# Altium schematic symbol library connector_degson.SchLib: 24 symbols
Pins are listed as number, name and electrical type; pins without a type are passive.

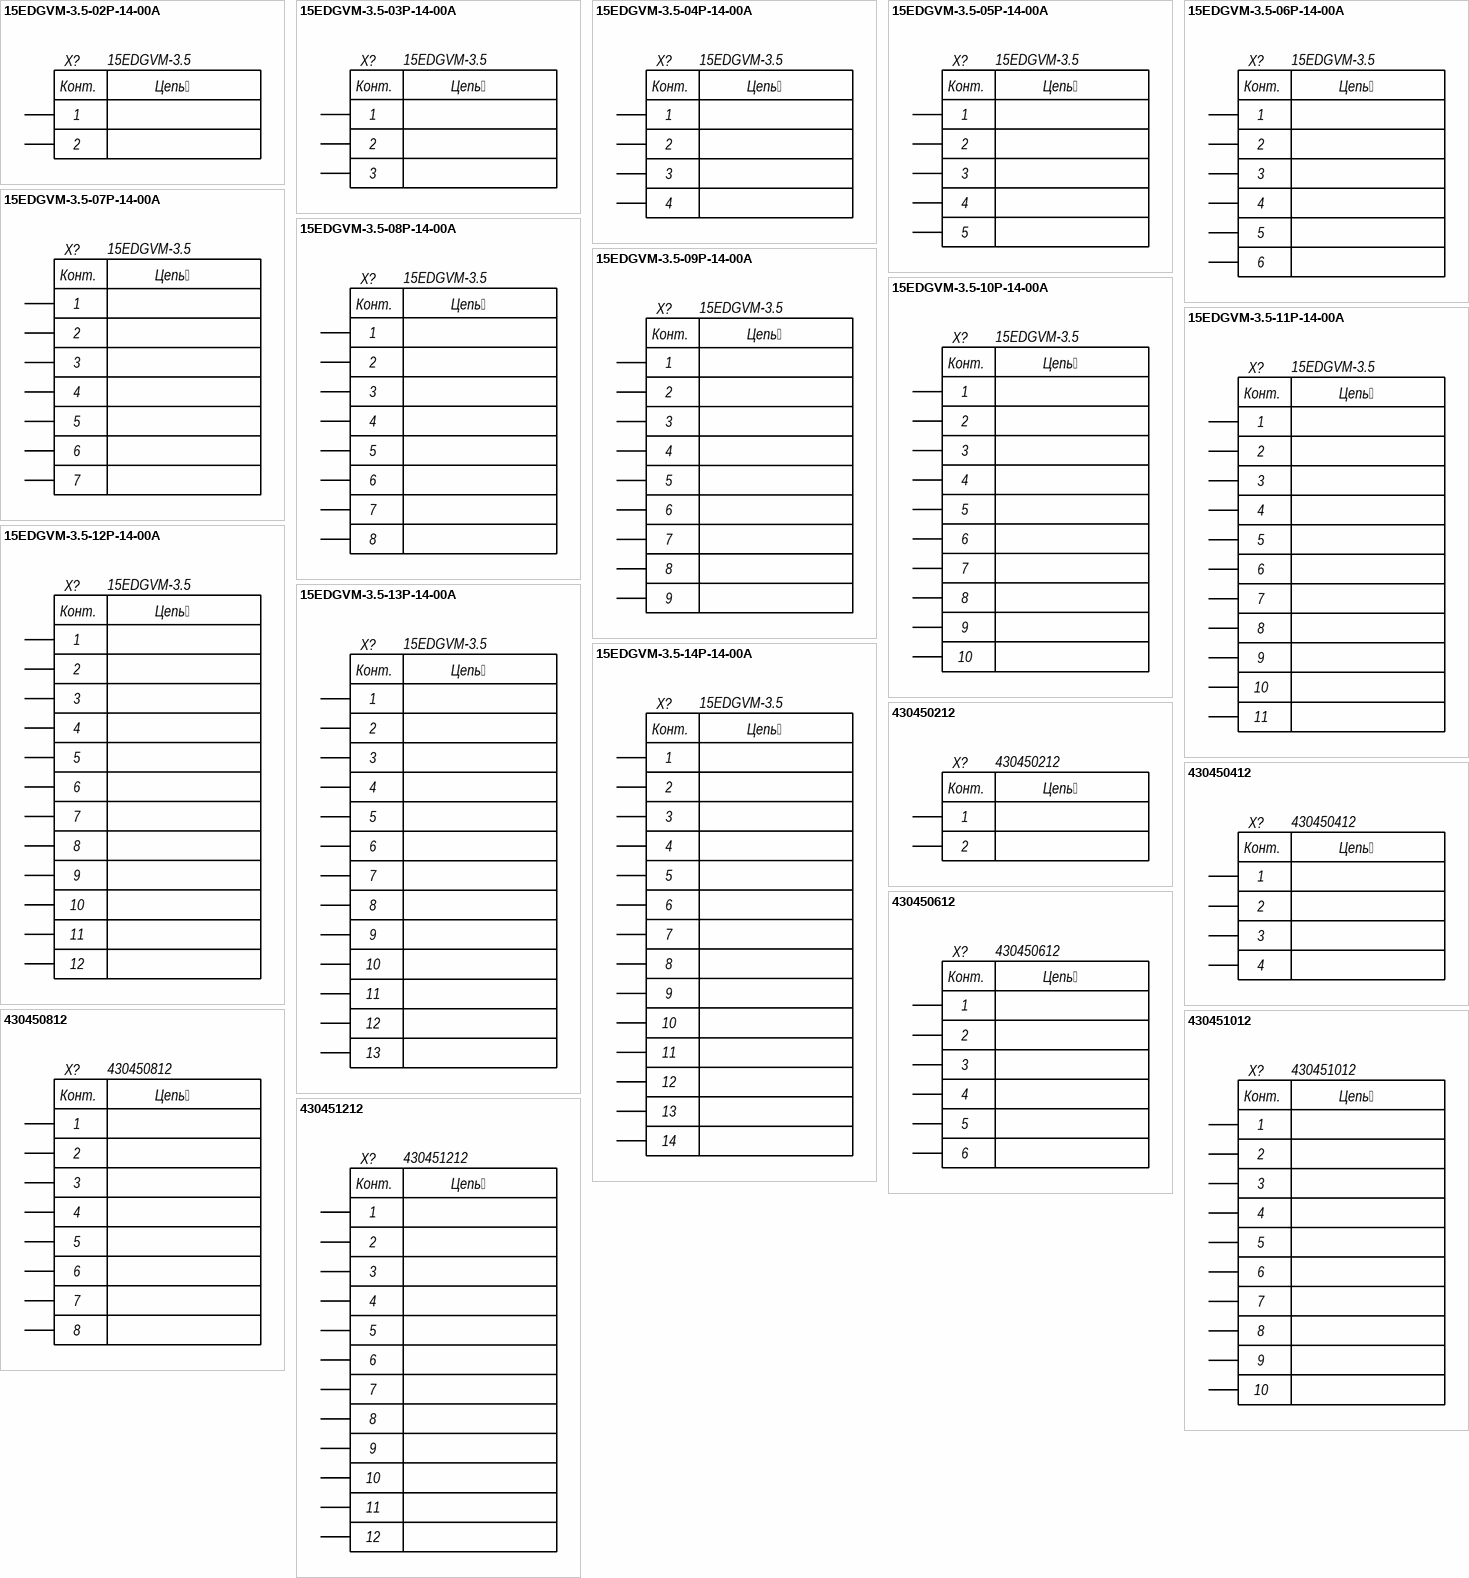
[diagram p0: symbols 15EDGVM-3.5-02P-14-00A to 430451212]

## 15EDGVM-3.5-02P-14-00A
designator X?, comment 15EDGVM-3.5
15EDGVM-3.5-02P-14-00A; Manufacturer: Degson Electronics Co.; ValueBOM: 15EDGVM-3.5-02P-14-00A   Degson Electronics Co.; Value: 15EDGVM-3.5; Part Number: 15EDGVM-3.5-02P-14-00A; Package: 15EDGVM-3.5-02P-14-00A; BOM1: 15EDGVM-3.5-02P-14-00A; BOM2: 15EDGVM-3.5-02P-14-00A
footprint 15EDGVM3502P1400AH (15EDGVM-3.5-02P-14-00A)
footprint 15EDGVM3502P1400AH - 15EDGKM-3.5-02P-14-00AH (15EDGVM-3.5-02P-14-00A)
pins: 1, 2
text: Конт.; Цепь

## 15EDGVM-3.5-03P-14-00A
designator X?, comment 15EDGVM-3.5
15EDGVM-3.5-03P-14-00A; Manufacturer: Degson Electronics Co.; ValueBOM: 15EDGVM-3.5-03P-14-00A   Degson Electronics Co.; Value: 15EDGVM-3.5; Part Number: 15EDGVM-3.5-03P-14-00A; Package: 15EDGVM-3.5-03P-14-00A; BOM1: 15EDGVM-3.5-03P-14-00A; BOM2: 15EDGVM-3.5-03P-14-00A
footprint 15EDGVM3503P1400AH (15EDGVM-3.5-03P-14-00A)
footprint 15EDGVM3503P1400AH - 15EDGKM-3.5-03P-14-00AH (15EDGVM-3.5-03P-14-00A)
pins: 1, 2, 3
text: Конт.; Цепь

## 15EDGVM-3.5-04P-14-00A
designator X?, comment 15EDGVM-3.5
15EDGVM-3.5-04P-14-00A; Manufacturer: Degson Electronics Co.; ValueBOM: 15EDGVM-3.5-04P-14-00A   Degson Electronics Co.; Value: 15EDGVM-3.5; Part Number: 15EDGVM-3.5-04P-14-00A; Package: 15EDGVM-3.5-04P-14-00A; BOM1: 15EDGVM-3.5-04P-14-00A; BOM2: 15EDGVM-3.5-04P-14-00A
footprint 15EDGVM3504P1400AH (15EDGVM-3.5-04P-14-00A)
footprint 15EDGVM3504P1400AH - 15EDGKM-3.5-04P-14-00AH (15EDGVM-3.5-04P-14-00A)
pins: 1, 2, 3, 4
text: Конт.; Цепь

## 15EDGVM-3.5-05P-14-00A
designator X?, comment 15EDGVM-3.5
15EDGVM-3.5-05P-14-00A; Manufacturer: Degson Electronics Co.; ValueBOM: 15EDGVM-3.5-05P-14-00A   Degson Electronics Co.; Value: 15EDGVM-3.5; Part Number: 15EDGVM-3.5-05P-14-00A; Package: 15EDGVM-3.5-05P-14-00A; BOM1: 15EDGVM-3.5-05P-14-00A; BOM2: 15EDGVM-3.5-05P-14-00A
footprint 15EDGVM3505P1400AH (15EDGVM-3.5-05P-14-00A)
footprint 15EDGVM3505P1400AH - 15EDGKM-3.5-05P-14-00AH (15EDGVM-3.5-05P-14-00A)
pins: 1, 2, 3, 4, 5
text: Конт.; Цепь

## 15EDGVM-3.5-06P-14-00A
designator X?, comment 15EDGVM-3.5
15EDGVM-3.5-06P-14-00A; Manufacturer: Degson Electronics Co.; ValueBOM: 15EDGVM-3.5-06P-14-00A   Degson Electronics Co.; Value: 15EDGVM-3.5; Part Number: 15EDGVM-3.5-06P-14-00A; Package: 15EDGVM-3.5-06P-14-00A; BOM1: 15EDGVM-3.5-06P-14-00A; BOM2: 15EDGVM-3.5-06P-14-00A
footprint 15EDGVM3506P1400AH (15EDGVM-3.5-06P-14-00A)
footprint 15EDGVM3506P1400AH - 15EDGKM-3.5-06P-14-00AH (15EDGVM-3.5-06P-14-00A)
pins: 1, 2, 3, 4, 5, 6
text: Конт.; Цепь

## 15EDGVM-3.5-07P-14-00A
designator X?, comment 15EDGVM-3.5
15EDGVM-3.5-07P-14-00A; Manufacturer: Degson Electronics Co.; ValueBOM: 15EDGVM-3.5-07P-14-00A   Degson Electronics Co.; Value: 15EDGVM-3.5; Part Number: 15EDGVM-3.5-07P-14-00A; Package: 15EDGVM-3.5-07P-14-00A; BOM1: 15EDGVM-3.5-07P-14-00A; BOM2: 15EDGVM-3.5-07P-14-00A
footprint 15EDGVM3507P1400AH (15EDGVM-3.5-07P-14-00A)
footprint 15EDGVM3507P1400AH - 15EDGKM-3.5-07P-14-00AH (15EDGVM-3.5-07P-14-00A)
pins: 1, 2, 3, 4, 5, 6, 7
text: Конт.; Цепь

## 15EDGVM-3.5-08P-14-00A
designator X?, comment 15EDGVM-3.5
15EDGVM-3.5-08P-14-00A; Manufacturer: Degson Electronics Co.; ValueBOM: 15EDGVM-3.5-08P-14-00A   Degson Electronics Co.; Value: 15EDGVM-3.5; Part Number: 15EDGVM-3.5-08P-14-00A; Package: 15EDGVM-3.5-08P-14-00A; BOM1: 15EDGVM-3.5-08P-14-00A; BOM2: 15EDGVM-3.5-08P-14-00A
footprint 15EDGVM3508P1400AH (15EDGVM-3.5-08P-14-00A)
footprint 15EDGVM3508P1400AH - 15EDGKM-3.5-08P-14-00AH (15EDGVM-3.5-08P-14-00A)
pins: 1, 2, 3, 4, 5, 6, 7, 8
text: Конт.; Цепь

## 15EDGVM-3.5-09P-14-00A
designator X?, comment 15EDGVM-3.5
15EDGVM-3.5-09P-14-00A; Manufacturer: Degson Electronics Co.; ValueBOM: 15EDGVM-3.5-09P-14-00A   Degson Electronics Co.; Value: 15EDGVM-3.5; Part Number: 15EDGVM-3.5-09P-14-00A; Package: 15EDGVM-3.5-09P-14-00A; BOM1: 15EDGVM-3.5-09P-14-00A; BOM2: 15EDGVM-3.5-09P-14-00A
footprint 15EDGVM3509P1400AH (15EDGVM-3.5-09P-14-00A)
footprint 15EDGVM3509P1400AH - 15EDGKM-3.5-09P-14-00AH (15EDGVM-3.5-09P-14-00A)
pins: 1, 2, 3, 4, 5, 6, 7, 8, 9
text: Конт.; Цепь

## 15EDGVM-3.5-10P-14-00A
designator X?, comment 15EDGVM-3.5
15EDGVM-3.5-10P-14-00A; Manufacturer: Degson Electronics Co.; ValueBOM: 15EDGVM-3.5-10P-14-00A   Degson Electronics Co.; Value: 15EDGVM-3.5; Part Number: 15EDGVM-3.5-10P-14-00A; Package: 15EDGVM-3.5-10P-14-00A; BOM1: 15EDGVM-3.5-10P-14-00A; BOM2: 15EDGVM-3.5-10P-14-00A
footprint 15EDGVM3510P1400AH (15EDGVM-3.5-10P-14-00A)
footprint 15EDGVM3510P1400AH - 15EDGKM-3.5-10P-14-00AH (15EDGVM-3.5-10P-14-00A)
pins: 1, 2, 3, 4, 5, 6, 7, 8, 9, 10
text: Конт.; Цепь

## 15EDGVM-3.5-11P-14-00A
designator X?, comment 15EDGVM-3.5
15EDGVM-3.5-11P-14-00A; Manufacturer: Degson Electronics Co.; ValueBOM: 15EDGVM-3.5-11P-14-00A   Degson Electronics Co.; Value: 15EDGVM-3.5; Part Number: 15EDGVM-3.5-11P-14-00A; Package: 15EDGVM-3.5-11P-14-00A; BOM1: 15EDGVM-3.5-11P-14-00A; BOM2: 15EDGVM-3.5-11P-14-00A
footprint 15EDGVM3511P1400AH (15EDGVM-3.5-11P-14-00A)
footprint 15EDGVM3511P1400AH - 15EDGKM-3.5-11P-14-00AH (15EDGVM-3.5-11P-14-00A)
pins: 1, 2, 3, 4, 5, 6, 7, 8, 9, 10, 11
text: Конт.; Цепь

## 15EDGVM-3.5-12P-14-00A
designator X?, comment 15EDGVM-3.5
15EDGVM-3.5-12P-14-00A; Manufacturer: Degson Electronics Co.; ValueBOM: 15EDGVM-3.5-12P-14-00A   Degson Electronics Co.; Value: 15EDGVM-3.5; Part Number: 15EDGVM-3.5-12P-14-00A; Package: 15EDGVM-3.5-12P-14-00A; BOM1: 15EDGVM-3.5-12P-14-00A; BOM2: 15EDGVM-3.5-12P-14-00A
footprint 15EDGVM3512P1400AH (15EDGVM-3.5-12P-14-00A)
footprint 15EDGVM3512P1400AH - 15EDGKM-3.5-12P-14-00AH (15EDGVM-3.5-12P-14-00A)
pins: 1, 2, 3, 4, 5, 6, 7, 8, 9, 10, 11, 12
text: Конт.; Цепь

## 15EDGVM-3.5-13P-14-00A
designator X?, comment 15EDGVM-3.5
15EDGVM-3.5-13P-14-00A; Manufacturer: Degson Electronics Co.; ValueBOM: 15EDGVM-3.5-13P-14-00A   Degson Electronics Co.; Value: 15EDGVM-3.5; Part Number: 15EDGVM-3.5-13P-14-00A; Package: 15EDGVM-3.5-13P-14-00A; BOM1: 15EDGVM-3.5-13P-14-00A; BOM2: 15EDGVM-3.5-13P-14-00A
footprint 15EDGVM3513P1400AH (15EDGVM-3.5-13P-14-00A)
footprint 15EDGVM3513P1400AH - 15EDGKM-3.5-13P-14-00AH (15EDGVM-3.5-13P-14-00A)
pins: 1, 2, 3, 4, 5, 6, 7, 8, 9, 10, 11, 12, 13
text: Конт.; Цепь

## 15EDGVM-3.5-14P-14-00A
designator X?, comment 15EDGVM-3.5
15EDGVM-3.5-14P-14-00A; Manufacturer: Degson Electronics Co.; ValueBOM: 15EDGVM-3.5-14P-14-00A   Degson Electronics Co.; Value: 15EDGVM-3.5; Part Number: 15EDGVM-3.5-14P-14-00A; Package: 15EDGVM-3.5-14P-14-00A; BOM1: 15EDGVM-3.5-14P-14-00A; BOM2: 15EDGVM-3.5-14P-14-00A
footprint 15EDGVM3514P1400AH (15EDGVM-3.5-14P-14-00A)
footprint 15EDGVM3514P1400AH - 15EDGKM-3.5-14P-14-00AH (15EDGVM-3.5-14P-14-00A)
pins: 1, 2, 3, 4, 5, 6, 7, 8, 9, 10, 11, 12, 13, 14
text: Конт.; Цепь

## 430450212
designator X?
Micro-Fit 3.0 Vertical Header, 3.00mm Pitch, Dual Row, with PCB Polarizing Peg, 1.52µm Matte Tin Plating, Glow-Wire Capable, Black; Manufacturer: Molex; BOM1: Molex 430450212; ValueBOM: 430450212   Molex; Value: 430450212; Part Number: 430450212; Package: 430450212; BOM2: Molex 430450212
footprint 430450212 (Micro-Fit 3.0 Vertical Header, 3.00mm Pitch, Dual Row,  with PCB Polarizing Peg, 1.52µm Matte Tin Plating, Glow-Wire Capable, Black)
footprint 430450212 - 430450200 (Micro-Fit 3.0 Vertical Header, 3.00mm Pitch, Dual Row,  with PCB Polarizing Peg, 1.52µm Matte Tin Plating, Glow-Wire Capable, Black)
pins: 1, 2
text: Конт.; Цепь

## 430450412
designator X?
Micro-Fit 3.0 Vertical Header, 3.00mm Pitch, Dual Row, with PCB Polarizing Peg, 1.52µm Matte Tin Plating, Glow-Wire Capable, Black; Manufacturer: Molex; BOM1: Molex 430450412; ValueBOM: 430450412   Molex; Value: 430450412; Part Number: 430450412; Package: 430450412; BOM2: Molex 430450412
footprint 430450412 (Micro-Fit 3.0 Vertical Header, 3.00mm Pitch, Dual Row,  with PCB Polarizing Peg, 1.52µm Matte Tin Plating, Glow-Wire Capable, Black)
footprint 430450412 - 430450400 (Micro-Fit 3.0 Vertical Header, 3.00mm Pitch, Dual Row,  with PCB Polarizing Peg, 1.52µm Matte Tin Plating, Glow-Wire Capable, Black)
pins: 1, 2, 3, 4
text: Конт.; Цепь

## 430450612
designator X?
Micro-Fit 3.0 Vertical Header, 3.00mm Pitch, Dual Row, with PCB Polarizing Peg, 1.52µm Matte Tin Plating, Glow-Wire Capable, Black; Manufacturer: Molex; BOM1: Molex 430450612; ValueBOM: 430450612   Molex; Value: 430450612; Part Number: 430450612; Package: 430450612; BOM2: Molex 430450612
footprint 430450612 (Micro-Fit 3.0 Vertical Header, 3.00mm Pitch, Dual Row,  with PCB Polarizing Peg, 1.52µm Matte Tin Plating, Glow-Wire Capable, Black)
footprint 430450612 - 430450600 (Micro-Fit 3.0 Vertical Header, 3.00mm Pitch, Dual Row,  with PCB Polarizing Peg, 1.52µm Matte Tin Plating, Glow-Wire Capable, Black)
pins: 1, 2, 3, 4, 5, 6
text: Конт.; Цепь

## 430450812
designator X?
Micro-Fit 3.0 Vertical Header, 3.00mm Pitch, Dual Row, with PCB Polarizing Peg, 1.52µm Matte Tin Plating, Glow-Wire Capable, Black; Manufacturer: Molex; BOM1: Molex 430450812; ValueBOM: 430450812   Molex; Value: 430450812; Part Number: 430450812; Package: 430450812; BOM2: Molex 430450812
footprint 430450812 (Micro-Fit 3.0 Vertical Header, 3.00mm Pitch, Dual Row,  with PCB Polarizing Peg, 1.52µm Matte Tin Plating, Glow-Wire Capable, Black)
footprint 430450812 - 430450800 (Micro-Fit 3.0 Vertical Header, 3.00mm Pitch, Dual Row,  with PCB Polarizing Peg, 1.52µm Matte Tin Plating, Glow-Wire Capable, Black)
pins: 1, 2, 3, 4, 5, 6, 7, 8
text: Конт.; Цепь

## 430451012
designator X?
Micro-Fit 3.0 Vertical Header, 3.00mm Pitch, Dual Row, with PCB Polarizing Peg, 1.52µm Matte Tin Plating, Glow-Wire Capable, Black; Manufacturer: Molex; BOM1: Molex 430451012; ValueBOM: 430451012   Molex; Value: 430451012; Part Number: 430451012; Package: 430451012; BOM2: Molex 430451012
footprint 430451012
footprint 430451012 - 430451000 (Micro-Fit 3.0 Vertical Header, 3.00mm Pitch, Dual Row,  with PCB Polarizing Peg, 1.52µm Matte Tin Plating, Glow-Wire Capable, Black)
pins: 1, 2, 3, 4, 5, 6, 7, 8, 9, 10
text: Конт.; Цепь

## 430451212
designator X?
Micro-Fit 3.0 Vertical Header, 3.00mm Pitch, Dual Row, with PCB Polarizing Peg, 1.52µm Matte Tin Plating, Glow-Wire Capable, Black; Manufacturer: Molex; BOM1: Molex 430451212; ValueBOM: 430451212   Molex; Value: 430451212; Part Number: 430451212; Package: 430451212; BOM2: Molex 430451212
footprint 430451212 - 430451200 (Micro-Fit 3.0 Vertical Header, 3.00mm Pitch, Dual Row,  with PCB Polarizing Peg, 1.52µm Matte Tin Plating, Glow-Wire Capable, Black)
footprint 430451212 (Micro-Fit 3.0 Vertical Header, 3.00mm Pitch, Dual Row,  with PCB Polarizing Peg, 1.52µm Matte Tin Plating, Glow-Wire Capable, Black)
pins: 1, 2, 3, 4, 5, 6, 7, 8, 9, 10, 11, 12
text: Конт.; Цепь

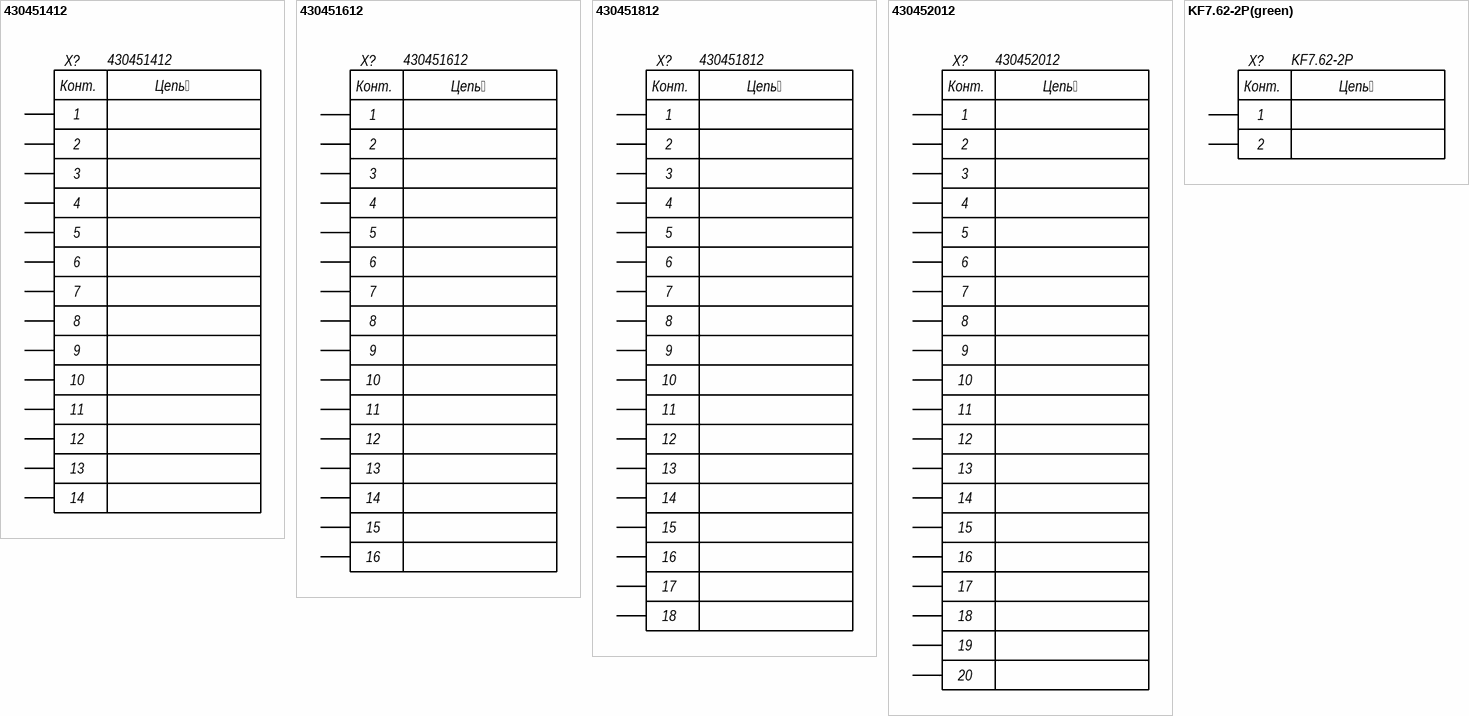
[diagram p1: symbols 430451412 to KF7.62-2P(green)]

## 430451412
designator X?
Micro-Fit 3.0 Vertical Header, 3.00mm Pitch, Dual Row, with PCB Polarizing Peg, 1.52µm Matte Tin Plating, Glow-Wire Capable, Black; Manufacturer: Molex; BOM1: Molex 430451412; ValueBOM: 430451412   Molex; Value: 430451412; Part Number: 430451412; Package: 430451412; BOM2: Molex 430451412
footprint 430451412 (Micro-Fit 3.0 Vertical Header, 3.00mm Pitch, Dual Row,  with PCB Polarizing Peg, 1.52µm Matte Tin Plating, Glow-Wire Capable, Black)
footprint 430451412 - 430451400 (Micro-Fit 3.0 Vertical Header, 3.00mm Pitch, Dual Row,  with PCB Polarizing Peg, 1.52µm Matte Tin Plating, Glow-Wire Capable, Black)
pins: 1, 2, 3, 4, 5, 6, 7, 8, 9, 10, 11, 12, 13, 14
text: Конт.; Цепь

## 430451612
designator X?
Micro-Fit 3.0 Vertical Header, 3.00mm Pitch, Dual Row, with PCB Polarizing Peg, 1.52µm Matte Tin Plating, Glow-Wire Capable, Black; Manufacturer: Molex; BOM1: Molex 430451612; ValueBOM: 430451612   Molex; Value: 430451612; Part Number: 430451612; Package: 430451612; BOM2: Molex 430451612
footprint 430451612 (Micro-Fit 3.0 Vertical Header, 3.00mm Pitch, Dual Row,  with PCB Polarizing Peg, 1.52µm Matte Tin Plating, Glow-Wire Capable, Black)
footprint 430451612 - 430451600 (Micro-Fit 3.0 Vertical Header, 3.00mm Pitch, Dual Row,  with PCB Polarizing Peg, 1.52µm Matte Tin Plating, Glow-Wire Capable, Black)
pins: 1, 2, 3, 4, 5, 6, 7, 8, 9, 10, 11, 12, 13, 14, 15, 16
text: Конт.; Цепь

## 430451812
designator X?
Micro-Fit 3.0 Vertical Header, 3.00mm Pitch, Dual Row, with PCB Polarizing Peg, 1.52µm Matte Tin Plating, Glow-Wire Capable, Black; Manufacturer: Molex; BOM1: Molex 430451812; ValueBOM: 430451812   Molex; Value: 430451812; Part Number: 430451812; Package: 430451812; BOM2: Molex 430451812
footprint 430451812 (Micro-Fit 3.0 Vertical Header, 3.00mm Pitch, Dual Row,  with PCB Polarizing Peg, 1.52µm Matte Tin Plating, Glow-Wire Capable, Black)
footprint 430451812 - 430451800 (Micro-Fit 3.0 Vertical Header, 3.00mm Pitch, Dual Row,  with PCB Polarizing Peg, 1.52µm Matte Tin Plating, Glow-Wire Capable, Black)
pins: 1, 2, 3, 4, 5, 6, 7, 8, 9, 10, 11, 12, 13, 14, 15, 16, 17, 18
text: Конт.; Цепь

## 430452012
designator X?
Micro-Fit 3.0 Vertical Header, 3.00mm Pitch, Dual Row, with PCB Polarizing Peg, 1.52µm Matte Tin Plating, Glow-Wire Capable, Black; Manufacturer: Molex; BOM1: Molex 430452012; ValueBOM: 430452012   Molex; Value: 430452012; Part Number: 430452012; Package: 430452012; BOM2: Molex 430452012
footprint 430452012 (Micro-Fit 3.0 Vertical Header, 3.00mm Pitch, Dual Row,  with PCB Polarizing Peg, 1.52µm Matte Tin Plating, Glow-Wire Capable, Black)
footprint 430452012 - 430452000 (Micro-Fit 3.0 Vertical Header, 3.00mm Pitch, Dual Row,  with PCB Polarizing Peg, 1.52µm Matte Tin Plating, Glow-Wire Capable, Black)
pins: 1, 2, 3, 4, 5, 6, 7, 8, 9, 10, 11, 12, 13, 14, 15, 16, 17, 18, 19, 20
text: Конт.; Цепь

## KF7.62-2P(green)
designator X?, comment KF7.62-2P
KF7.62-2P(green); Manufacturer: Degson Electronics Co.; BOM1: 7.62 mm KF7.62-2P(green); ValueBOM: KF7.62-2P(green)   Degson Electronics Co.; Value: KF7.62-2P; Part Number: KF7.62-2P(green); Package: 7.62 mm KF7.62; BOM2: 7.62 mm KF7.62-2P(green)
footprint KF7.62-2P (KF7.62-2P 24A 450V 7.62mm M3 Side Mount -40?~+105?)
pins: 1, 2
text: Конт.; Цепь